# Altium footprint library SPINNER_TWIN_STARS.PcbLib: 46 footprints (part 3 of 3)
Each footprint in its own frame and in the unit in brackets; x right, y up, seen from the top. Pads: shape width x height; smd on the part's side, far side on the other; paste and mask are expansions set on the pad; w line width, h text height; cw(c..) or ccw(c..) is an arc to the next point about the centre after c.
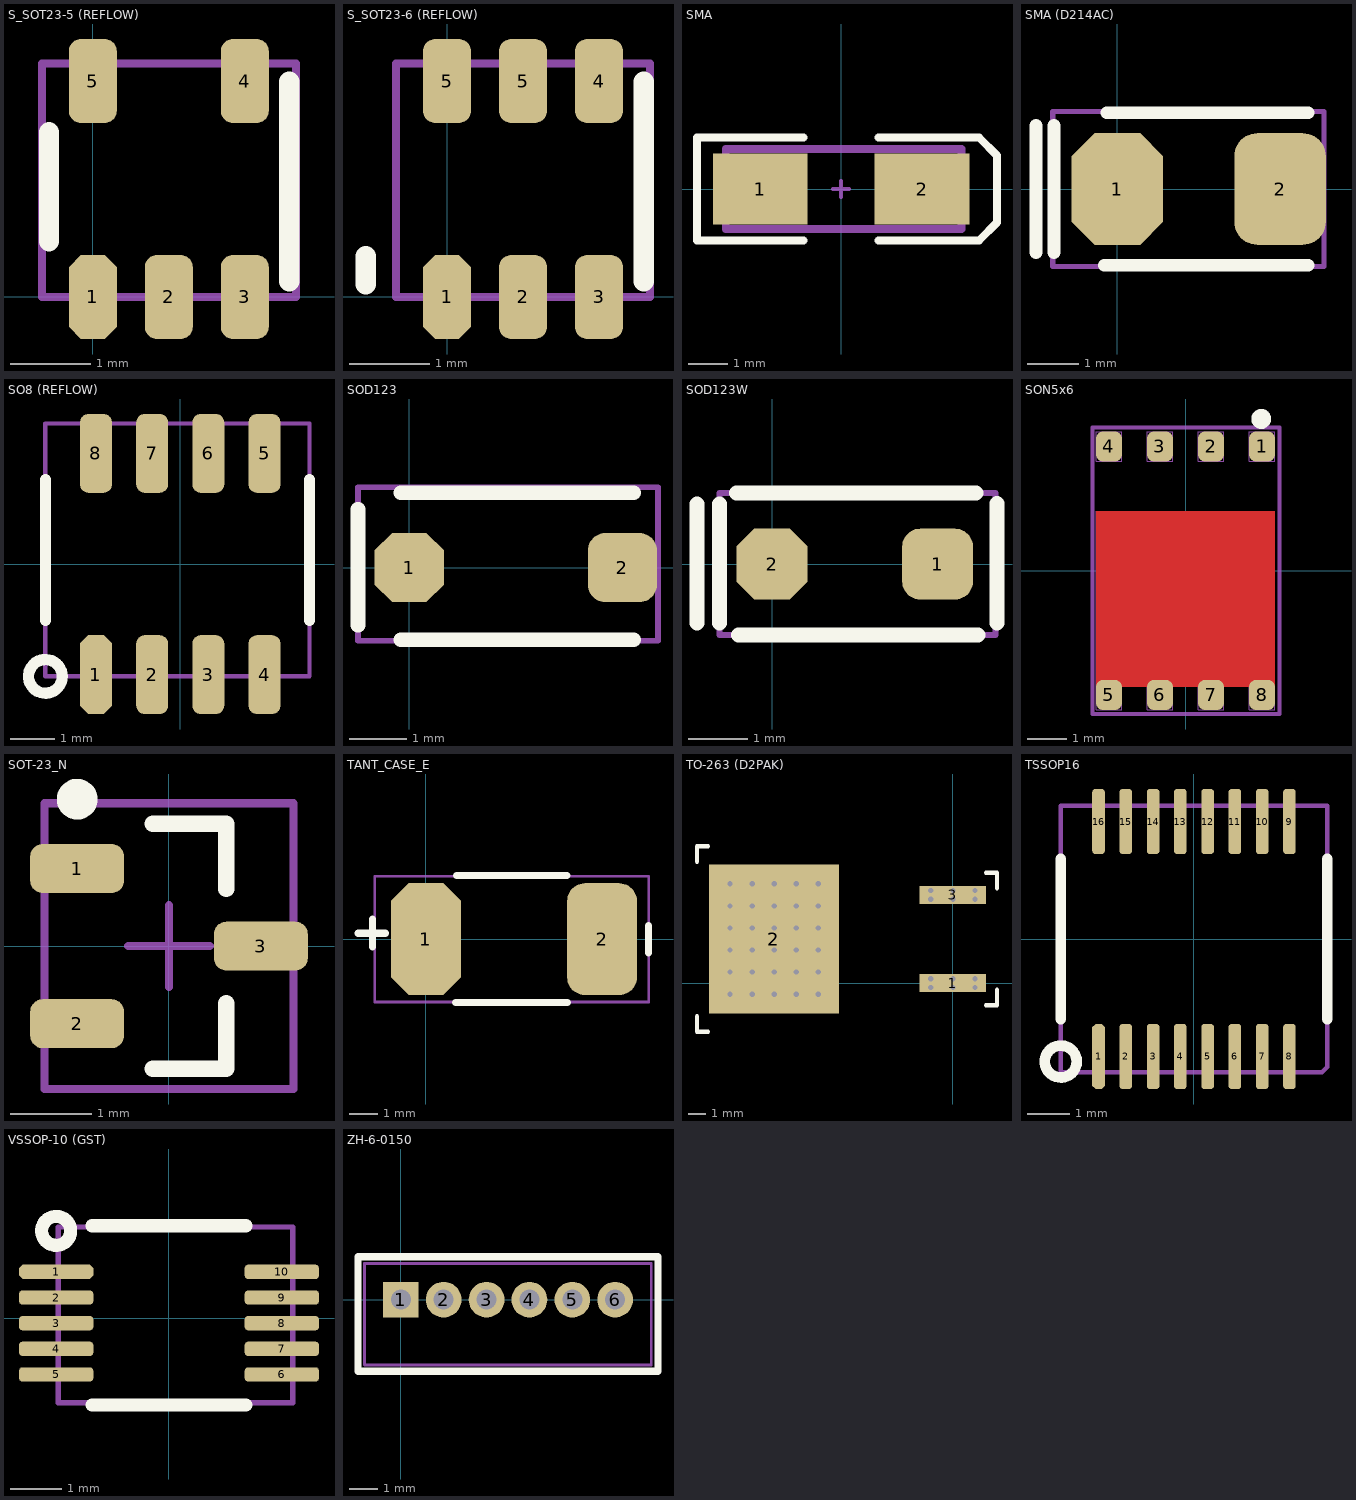
[diagram p2: the footprints below, top view; thin cyan lines are the x and y axes]

## S_SOT23-5 (REFLOW) [mm]
pads (5):
  oct 0.6x1.05 smd: 1(0,0)
  rrect50% 0.6x1.05 smd: 2(0.95,0) 3(1.9,0) 4(1.9,2.7) 5(0,2.7)
Top silk:
  lines w0.254: -0.547,0.695 -0.547,2.061 ; 2.457,0.194 2.457,2.694
Mechanical 15:
  lines w0.1: -0.635,0 2.54,0 2.54,2.921 -0.635,2.921 -0.635,0

## S_SOT23-6 (REFLOW) [mm]
pads (6):
  oct 0.6x1.05 smd: 1(0,0)
  rrect50% 0.6x1.05 smd: 2(0.95,0) 3(1.9,0) 4(1.9,2.7) 5(0,2.7) 5(0.95,2.7)
Top silk:
  lines w0.254: -1.016,0.158 -1.016,0.508 ; 2.457,0.194 2.457,2.694
Mechanical 15:
  lines w0.1: -0.635,0 2.54,0 2.54,2.921 -0.635,2.921 -0.635,0

## SMA [mm] "DO-214-AC/SMA; 2 C-Bend Leads; Body 5 x 2.7 mm, inc. leads (LxW)"
height 2.44
pads (2):
  rect 2.4x1.8 smd: 1(-2.05,0) 2(2.05,0)
Top silk:
  lines w0.2: -0.95,-1.3 -3.65,-1.3 -3.65,1.3 -0.95,1.3 ; 0.95,-1.3 3.5,-1.3 3.95,-0.85 3.95,0.85 3.5,1.3 0.95,1.3
Mechanical 15:
  lines w0.1: -0.2,0 0.2,0 ; 0,-0.2 0,0.2
  lines w0.2: -2.921,-1.016 3.048,-1.016 3.048,1.016 -2.921,1.016 -2.921,-1.016
3D body: height 3, standoff 0, extent -2.921,-1.016 3.048,1.016

## SMA (D214AC) [mm]
pads (2):
  oct 1.8x2.2 smd paste-0.05 mask+0.1: 1(0,0)
  rrect50% 1.8x2.2 smd paste-0.05 mask+0.1: 2(3.2,0)
Top silk:
  lines w0.254: -1.6,-1.25 -1.6,1.25 ; -1.25,-1.25 -1.25,1.25 ; -0.25,-1.5 3.75,-1.5 ; -0.2,1.5 3.75,1.5
Mechanical 15:
  lines w0.1: -1.27,-1.524 -1.27,1.524 4.064,1.524 4.064,-1.524 -1.27,-1.524

## SO8 (REFLOW) [mm]
pads (8):
  oct 0.72x1.78 smd: 1(-1.905,-2.5)
  rrect50% 0.72x1.78 smd: 2(-0.635,-2.5) 3(0.635,-2.5) 4(1.905,-2.5) 5(1.905,2.5) 6(0.635,2.5) 7(-0.635,2.5) 8(-1.905,2.5)
Top silk:
  circle w0.254: c-3.048,-2.54 r0.381
  lines w0.254: -3.048,-1.27 -3.048,1.905 ; 2.921,-1.27 2.921,1.905
Mechanical 15:
  lines w0.1: -3.048,-2.54 2.921,-2.54 2.921,3.175 -3.048,3.175 -3.048,-2.54

## SOD123 [mm]
pads (2):
  oct 1.2x1.2 smd paste-0.1 mask+0.1: 1(0,0)
  rrect50% 1.2x1.2 smd paste-0.1 mask+0.1: 2(3.7,0)
Top silk:
  lines w0.254: -0.889,-1 -0.889,1.016 ; -0.15,-1.25 3.9,-1.25 ; -0.15,1.3 3.9,1.3
Mechanical 15:
  lines w0.1: -0.889,-1.27 -0.889,1.397 4.318,1.397 4.318,-1.27 -0.889,-1.27

## SOD123W [mm]
pads (2):
  rrect50% 1.2x1.2 smd paste-0.1 mask+0.1: 1(2.8,0)
  oct 1.2x1.2 smd paste-0.1 mask+0.1: 2(0,0)
Top silk:
  lines w0.254: -1.27,-1 -1.27,1.016 ; -0.889,-1 -0.889,1.016 ; -0.604,1.2 3.446,1.2 ; -0.566,-1.2 3.484,-1.2 ; 3.804,-0.993 3.804,1.023
Mechanical 15:
  lines w0.1: -0.889,-1.197 -0.889,1.203 3.778,1.203 3.778,-1.197 -0.889,-1.197

## SON5x6 [mm]
pads (8):
  rrect50% 0.65x0.75 smd: 1(1.925,3.125) 2(0.642,3.125) 3(-0.642,3.125) 4(-1.925,3.125) 5(-1.925,-3.125) 6(-0.642,-3.125) 7(0.642,-3.125) 8(1.925,-3.125)
Top_Elec:
  rectangle: -2.25,-2.926 2.25,1.497
Top silk:
  lines w0.254: 2.023,3.858 ccw(c1.905,3.819) 2.028,3.798
Top Paste:
  rectangle: -2,-2.5 2,1.3
Mechanbical 1:
  circle w0: c0,0 r0.005
  lines w0: -2.25,-3.5 -1.6,-3.5 -1.6,-2.85 -0.967,-2.85 -0.967,-3.5 -0.317,-3.5 -0.317,-2.85 0.317,-2.85 0.317,-3.5 0.967,-3.5 0.967,-2.85 1.6,-2.85 1.6,-3.5 2.25,-3.5 2.25,1.5 -2.25,1.5 -2.25,-3.5 ; -2.25,2.75 -1.6,2.75 -1.6,3.5 -2.25,3.5 -2.25,2.75 ; -0.967,2.75 -0.317,2.75 -0.317,3.5 -0.967,3.5 -0.967,2.75 ; 0.317,2.75 0.967,2.75 0.967,3.5 0.317,3.5 0.317,2.75 ; 1.6,2.75 2.25,2.75 2.25,3.5 1.6,3.5 1.6,2.75
Mechanical 15:
  lines w0.1: -2.335,-3.605 2.359,-3.605 2.359,3.601 -2.335,3.601 -2.335,-3.605

## SOT-23_N [mm] "SOT23, 3-Leads, Body 2.9x1.3mm, Pitch 0.95mm, Lead Span 2.5mm, IPC Medium Density"
height 1.1
pads (3):
  rrect50% 1.15x0.6 smd: 1(-1.125,0.95) 2(-1.125,-0.95) 3(1.125,0)
Top silk:
  circle w0.25: c-1.125,1.8 r0.125
  lines w0.2: -0.2,-1.5 0.7,-1.5 0.7,-0.7 ; -0.2,1.5 0.7,1.5 0.7,0.7
Mechanical 15:
  lines w0.1: -0.5,0 0.5,0 ; 0,-0.5 0,0.5 ; -1.524,-1.75 -1.524,1.75 1.524,1.75 1.524,-1.75 -1.524,-1.75

## TANT_CASE_E [mm]
pads (2):
  oct 2.5x4 smd paste-0.05 mask+0.1: 1(0,0)
  rrect50% 2.5x4 smd paste-0.05 mask+0.1: 2(6.3,0)
Top silk:
  lines w0.254: -2.432,0.211 -1.446,0.211 ; -1.914,-0.277 -1.914,0.709 ; 1.065,-2.265 5.065,-2.265 ; 1.094,2.272 5.044,2.272 ; 7.966,0.487 7.966,-0.501
Mechanical 15:
  lines w0.1: -1.829,2.229 -1.829,-2.25 7.966,-2.25 7.966,2.25 -1.829,2.25

## TO-263 (D2PAK) [mm]
pads (3):
  rect 3.82x1.05 all layers, no hole paste+0 mask+0.102: 1(0,0) 3(0,5.08)
  rect 7.48x8.55 all layers, no hole paste+0 mask+0.102: 2(-10.3,2.54)
via 1.27,-0.254 diameter 0.3 hole 0.3
via 1.27,0.254 diameter 0.3 hole 0.3
via 0,0.254 diameter 0.3 hole 0.3
via 0,-0.254 diameter 0.3 hole 0.3
via -1.27,-0.254 diameter 0.3 hole 0.3
via -1.27,0.254 diameter 0.3 hole 0.3
via 1.27,4.826 diameter 0.3 hole 0.3
via 1.27,5.334 diameter 0.3 hole 0.3
via 0,4.826 diameter 0.3 hole 0.3
via 0,5.334 diameter 0.3 hole 0.3
via -1.27,4.826 diameter 0.3 hole 0.3
via -1.27,5.334 diameter 0.3 hole 0.3
via -12.827,3.175 diameter 0.3 hole 0.3
via -11.557,3.175 diameter 0.3 hole 0.3
via -10.287,3.175 diameter 0.3 hole 0.3
via -9.017,3.175 diameter 0.3 hole 0.3
via -7.747,3.175 diameter 0.3 hole 0.3
via -7.747,1.905 diameter 0.3 hole 0.3
via -9.017,1.905 diameter 0.3 hole 0.3
via -10.287,1.905 diameter 0.3 hole 0.3
via -11.557,1.905 diameter 0.3 hole 0.3
via -12.827,1.905 diameter 0.3 hole 0.3
via -11.557,0.635 diameter 0.3 hole 0.3
via -10.287,0.635 diameter 0.3 hole 0.3
via -9.017,0.635 diameter 0.3 hole 0.3
via -7.747,0.635 diameter 0.3 hole 0.3
via -12.827,0.635 diameter 0.3 hole 0.3
via -12.827,-0.635 diameter 0.3 hole 0.3
via -11.557,-0.635 diameter 0.3 hole 0.3
via -10.287,-0.635 diameter 0.3 hole 0.3
via -9.017,-0.635 diameter 0.3 hole 0.3
via -7.747,-0.635 diameter 0.3 hole 0.3
via -12.827,4.445 diameter 0.3 hole 0.3
via -11.557,4.445 diameter 0.3 hole 0.3
via -10.287,4.445 diameter 0.3 hole 0.3
via -9.017,4.445 diameter 0.3 hole 0.3
via -7.747,4.445 diameter 0.3 hole 0.3
via -12.827,5.715 diameter 0.3 hole 0.3
via -11.557,5.715 diameter 0.3 hole 0.3
via -10.287,5.715 diameter 0.3 hole 0.3
via -9.017,5.715 diameter 0.3 hole 0.3
via -7.747,5.715 diameter 0.3 hole 0.3
Top silk:
  lines w0.254: -14.732,-1.905 -14.732,-2.794 -14.097,-2.794 ; -14.732,6.985 -14.732,7.874 -14.097,7.874 ; 1.905,-1.27 2.54,-1.27 2.54,-0.381 ; 1.905,6.35 2.508,6.35 ; 2.54,5.461 2.54,6.35
Top Paste:
  rectangle: -13.924,-1.712 -12.954,-0.762
  rectangle: -12.654,-1.712 -11.684,-0.762
  rectangle: -11.384,-1.712 -10.414,-0.762
  rectangle: -10.16,-1.712 -9.19,-0.762
  rectangle: -8.89,-1.712 -7.92,-0.762
  rectangle: -7.62,-1.712 -6.65,-0.762
  rectangle: -13.924,-0.442 -12.954,0.508
  rectangle: -12.654,-0.442 -11.684,0.508
  rectangle: -11.384,-0.442 -10.414,0.508
  rectangle: -10.16,-0.442 -9.19,0.508
  rectangle: -8.89,-0.442 -7.92,0.508
  rectangle: -7.62,-0.442 -6.65,0.508
  rectangle: -13.924,0.828 -12.954,1.778
  rectangle: -12.654,0.828 -11.684,1.778
  rectangle: -11.384,0.828 -10.414,1.778
  rectangle: -10.16,0.828 -9.19,1.778
  rectangle: -8.89,0.828 -7.92,1.778
  rectangle: -7.62,0.828 -6.65,1.778
  rectangle: -13.924,2.098 -12.954,3.048
  rectangle: -12.654,2.098 -11.684,3.048
  rectangle: -11.384,2.098 -10.414,3.048
  rectangle: -10.16,2.098 -9.19,3.048
  rectangle: -8.89,2.098 -7.92,3.048
  rectangle: -7.62,2.098 -6.65,3.048
  rectangle: -13.924,3.368 -12.954,4.318
  rectangle: -12.654,3.368 -11.684,4.318
  rectangle: -11.384,3.368 -10.414,4.318
  rectangle: -10.16,3.368 -9.19,4.318
  rectangle: -8.89,3.368 -7.92,4.318
  rectangle: -7.62,3.368 -6.65,4.318
  rectangle: -13.924,4.638 -12.954,5.588
  rectangle: -12.654,4.638 -11.684,5.588
  rectangle: -11.384,4.638 -10.414,5.588
  rectangle: -10.16,4.638 -9.19,5.588
  rectangle: -8.89,4.638 -7.92,5.588
  rectangle: -7.62,4.638 -6.65,5.588
  rectangle: -7.62,5.908 -6.65,6.858
  rectangle: -8.89,5.908 -7.92,6.858
  rectangle: -10.16,5.908 -9.19,6.858
  rectangle: -11.384,5.908 -10.414,6.858
  rectangle: -12.654,5.908 -11.684,6.858
  rectangle: -13.924,5.908 -12.954,6.858
  rectangle: -2.032,4.445 2.032,5.715
  rectangle: -2.032,-0.635 2.032,0.635

## TSSOP16 [mm]
height 2
pads (16):
  oct 0.3x1.55 smd paste+0: 1(-2.275,-2.8)
  rrect50% 0.3x1.55 smd paste+0: 2(-1.625,-2.8) 3(-0.975,-2.8) 4(-0.325,-2.8) 5(0.325,-2.8) 6(0.975,-2.8) 7(1.625,-2.8) 8(2.275,-2.8) 9(2.275,2.8) 10(1.625,2.8) 11(0.975,2.8) 12(0.325,2.8) 13(-0.325,2.8) 14(-0.975,2.8) 15(-1.625,2.8) 16(-2.275,2.8)
Top silk:
  circle w0.254: c-3.175,-2.921 r0.381
  lines w0.254: -3.175,-1.905 -3.175,1.905 ; 3.175,-1.905 3.175,1.905
Mechanical 15:
  lines w0.1: -3.175,-3.175 -3.175,3.175 3.175,3.175 3.175,-3.048 3.048,-3.175 -3.175,-3.175

## VSSOP-10 (GST) [mm]
pads (10):
  oct 1.45x0.28 smd: 1(-2.2,0.9)
  rrect50% 1.45x0.28 smd: 2(-2.2,0.4) 3(-2.2,-0.1) 4(-2.2,-0.6) 5(-2.2,-1.1) 6(2.2,-1.1) 7(2.2,-0.6) 8(2.2,-0.1) 9(2.2,0.4) 10(2.2,0.9)
Top silk:
  circle w0.254: c-2.2,1.7 r0.283
  lines w0.254: -1.5,-1.7 1.5,-1.7 ; -1.5,1.8 1.5,1.8
Mechanical 15:
  lines w0.1: -2.159,-1.651 2.413,-1.651 2.413,1.778 -2.159,1.778 -2.159,-1.651

## ZH-6-0150 [mm]
pads (6):
  rect 1.25x1.25 hole 0.7: 1(0,0)
  round 1.25 hole 0.7: 2(1.5,0) 3(3,0) 4(4.5,0) 5(6,0) 6(7.5,0)
Top silk:
  lines w0.254: -1.5,-2.5 9,-2.5 9,1.5 1.016,1.5 -1.5,1.5 -1.5,-2.5
Mechanical 15:
  lines w0.1: -1.27,1.27 8.763,1.27 ; -1.27,1.275 -1.27,-2.286 8.763,-2.286 8.763,1.25